# Altium schematic symbol library ECW20P20.SchLib: 1 symbol
Pins are listed as number, name and electrical type; pins without a type are passive.

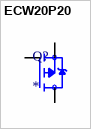
[diagram p0: symbol ECW20P20]

## ECW20P20
designator Q?
P CHANNEL LATERAL MOSFET; MP: ECW20P20; Package: None; Price: None; Value: *; Availability: Unavailable
footprint TO545P2000X491X2918-3
pins: 1 G, 2 S, 3 D